# Altium footprint library PCB - CAPACITOR - FILM - C4AQCBW5750A3NJ.PCBLIB: 1 footprints
Each footprint in its own frame and in the unit in brackets; x right, y up, seen from the top. Pads: shape width x height; smd on the part's side, far side on the other; paste and mask are expansions set on the pad; w line width, h text height; cw(c..) or ccw(c..) is an arc to the next point about the centre after c.
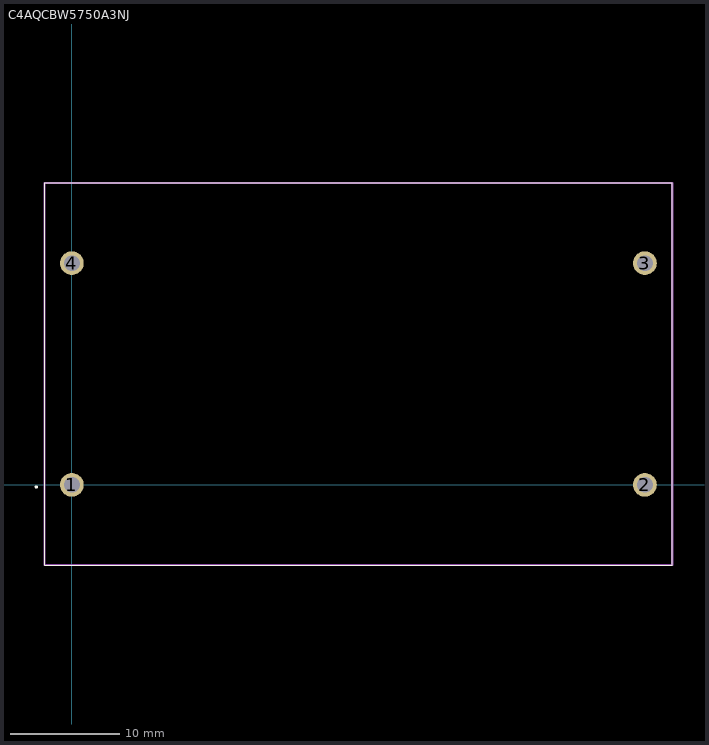
[diagram p0: the footprint, top view; thin cyan lines are the x and y axes]

## C4AQCBW5750A3NJ [mm]
pads (4):
  round 2.175 hole 1.45: 1(0,0) 2(52.5,0) 3(52.5,20.3) 4(0,20.3)
Top Overlay:
  lines w0.1: -2.5,-7.35 -2.5,27.65 55,27.65 55,-7.35 -2.5,-7.35
  lines w0.2: -3.25,-0.25 ccw(c-3.25,-0.2) -3.25,-0.15 ; -3.25,-0.25 cw(c-3.25,-0.2) -3.25,-0.15 ; -3.25,-0.25 ccw(c-3.25,-0.2) -3.25,-0.15
Top Value (Mech13):
  lines w0.2: -2.5,-7.35 -2.5,27.65 55,27.65 55,-7.35 -2.5,-7.35
3D body "C4AQCBW5750A3NJ.stp": height 50.3, standoff -6, extent -2.98,-7.605 55.32,27.9